# Altium footprint library mw.PcbLib: 123 footprints (part 4 of 8)
Each footprint in its own frame and in the unit in brackets; x right, y up, seen from the top. Pads: shape width x height; smd on the part's side, far side on the other; paste and mask are expansions set on the pad; w line width, h text height; cw(c..) or ccw(c..) is an arc to the next point about the centre after c.
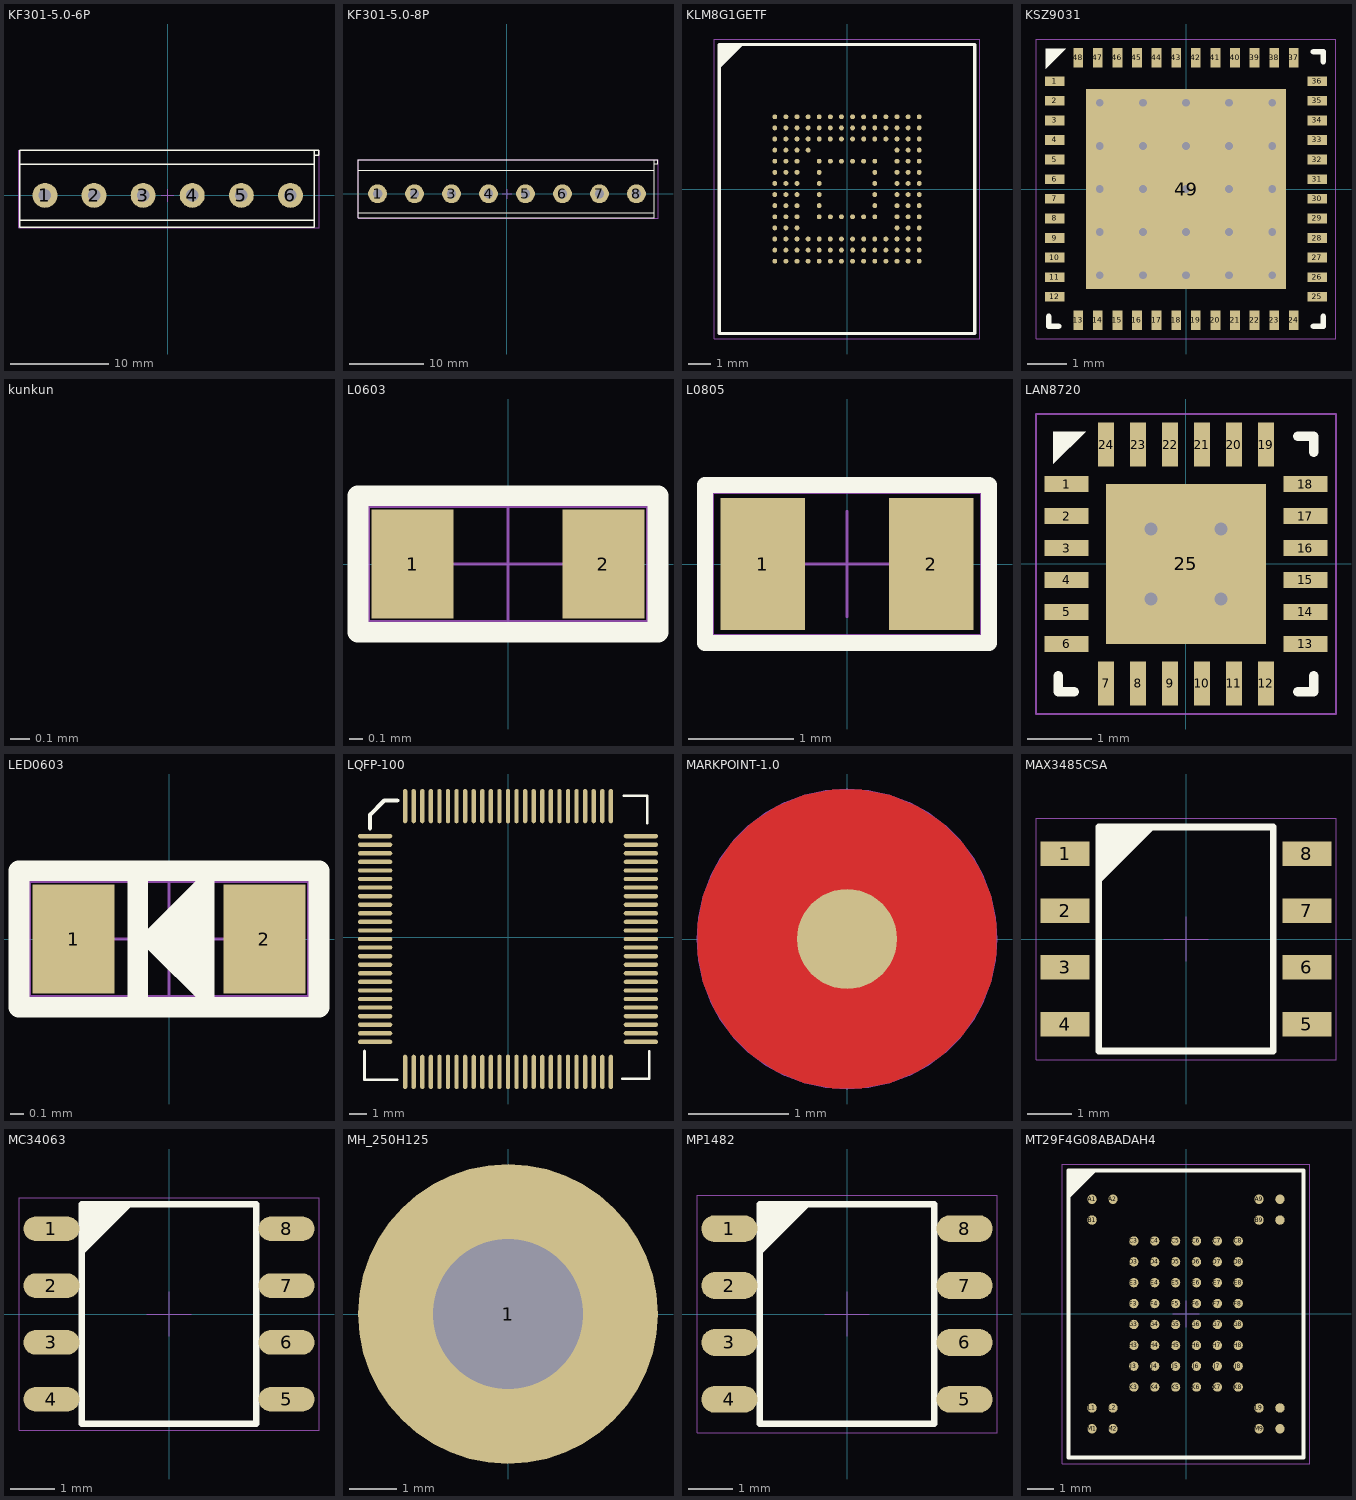
[diagram p3: the footprints below, top view; thin cyan lines are the x and y axes]

## KF301-5.0-6P [mm]
pads (6):
  round 2.54 hole 1.27: 1(-12.5,0) 2(-7.5,0) 3(-2.5,0) 4(2.5,0) 5(7.5,0) 6(12.5,0)
Top Overlay:
  lines w0.152: -15.08,-2.54 14.906,-2.54 ; -15.08,3.175 14.906,3.189 ; 14.906,4.064 15.367,4.064 15.367,4.572 ; 15.367,4.572 14.906,4.572 14.906,-3.225 -15.08,-3.225 -15.08,4.572 15.367,4.572
Mechanical 15:
  lines w0.025: -0.635,0 0.635,0 ; 0,-0.635 0,0.635 ; -15.144,-3.315 -15.144,4.61 15.414,4.61 15.414,-3.315 -15.144,-3.315
3D body "KF301-5.0-6.STEP": height 10, standoff -2, extent -15.08,-3.225 15.42,4.475

## KF301-5.0-8P [mm]
pads (8):
  round 2.54 hole 1.27: 1(-17.5,0) 2(-12.5,0) 3(-7.5,0) 4(-2.5,0) 5(2.5,0) 6(7.5,0) 7(12.5,0) 8(17.5,0)
Top Overlay:
  lines w0.152: -20.08,-2.54 19.906,-2.54 ; -20.08,3.175 19.906,3.193 ; 19.906,4.064 20.367,4.064 20.367,4.572 19.906,4.572 ; 19.906,4.572 19.906,-3.225 -20.08,-3.225 -20.08,4.572 19.906,4.572
Mechanical 15:
  lines w0.025: -0.617,-0.002 0.653,-0.002 ; 0.018,-0.637 0.018,0.633 ; -20.144,-3.315 20.414,-3.315 20.414,4.61 -20.144,4.61 -20.144,-3.315
3D body "KF301-5.0-8.STEP": height 10, standoff -2, extent -20.08,-3.225 20.42,4.475

## KLM8G1GETF [mm]
height 0.8
pads (153):
  round 0.22 smd: A1(-3.25,3.25) A2(-2.75,3.25) A3(-2.25,3.25) A4(-1.75,3.25) A5(-1.25,3.25) A6(-0.75,3.25) A7(-0.25,3.25) A8(0.25,3.25) A9(0.75,3.25) A10(1.25,3.25) A11(1.75,3.25) A12(2.25,3.25) A13(2.75,3.25) A14(3.25,3.25) B1(-3.25,2.75) B2(-2.75,2.75) B3(-2.25,2.75) B4(-1.75,2.75) B5(-1.25,2.75) B6(-0.75,2.75) B7(-0.25,2.75) B8(0.25,2.75) B9(0.75,2.75) B10(1.25,2.75) B11(1.75,2.75) B12(2.25,2.75) B13(2.75,2.75) B14(3.25,2.75) C1(-3.25,2.25) C2(-2.75,2.25) C3(-2.25,2.25) C4(-1.75,2.25) C5(-1.25,2.25) C6(-0.75,2.25) C7(-0.25,2.25) C8(0.25,2.25) C9(0.75,2.25) C10(1.25,2.25) C11(1.75,2.25) C12(2.25,2.25) C13(2.75,2.25) C14(3.25,2.25) D1(-3.25,1.75) D2(-2.75,1.75) D3(-2.25,1.75) D4(-1.75,1.75) D12(2.25,1.75) D13(2.75,1.75) D14(3.25,1.75) E1(-3.25,1.25) E2(-2.75,1.25) E3(-2.25,1.25) E5(-1.25,1.25) E6(-0.75,1.25) E7(-0.25,1.25) E8(0.25,1.25) E9(0.75,1.25) E10(1.25,1.25) E12(2.25,1.25) E13(2.75,1.25) E14(3.25,1.25) F1(-3.25,0.75) F2(-2.75,0.75) F3(-2.25,0.75) F5(-1.25,0.75) F10(1.25,0.75) F12(2.25,0.75) F13(2.75,0.75) F14(3.25,0.75) G1(-3.25,0.25) G2(-2.75,0.25) G3(-2.25,0.25) G5(-1.25,0.25) G10(1.25,0.25) G12(2.25,0.25) G13(2.75,0.25) G14(3.25,0.25) H1(-3.25,-0.25) H2(-2.75,-0.25) H3(-2.25,-0.25) H5(-1.25,-0.25) H10(1.25,-0.25) H12(2.25,-0.25) H13(2.75,-0.25) H14(3.25,-0.25) J1(-3.25,-0.75) J2(-2.75,-0.75) J3(-2.25,-0.75) J5(-1.25,-0.75) J10(1.25,-0.75) J12(2.25,-0.75) J13(2.75,-0.75) J14(3.25,-0.75) K1(-3.25,-1.25) K2(-2.75,-1.25) K3(-2.25,-1.25) K5(-1.25,-1.25) K6(-0.75,-1.25) K7(-0.25,-1.25) K8(0.25,-1.25) K9(0.75,-1.25) K10(1.25,-1.25) K12(2.25,-1.25) K13(2.75,-1.25) K14(3.25,-1.25) L1(-3.25,-1.75) L2(-2.75,-1.75) L3(-2.25,-1.75) L12(2.25,-1.75) L13(2.75,-1.75) L14(3.25,-1.75) M1(-3.25,-2.25) M2(-2.75,-2.25) M3(-2.25,-2.25) M4(-1.75,-2.25) M5(-1.25,-2.25) M6(-0.75,-2.25) M7(-0.25,-2.25) M8(0.25,-2.25) M9(0.75,-2.25) M10(1.25,-2.25) M11(1.75,-2.25) M12(2.25,-2.25) M13(2.75,-2.25) M14(3.25,-2.25) N1(-3.25,-2.75) N2(-2.75,-2.75) N3(-2.25,-2.75) N4(-1.75,-2.75) N5(-1.25,-2.75) N6(-0.75,-2.75) N7(-0.25,-2.75) N8(0.25,-2.75) N9(0.75,-2.75) N10(1.25,-2.75) N11(1.75,-2.75) N12(2.25,-2.75) N13(2.75,-2.75) N14(3.25,-2.75) P1(-3.25,-3.25) P2(-2.75,-3.25) P3(-2.25,-3.25) P4(-1.75,-3.25) P5(-1.25,-3.25) P6(-0.75,-3.25) P7(-0.25,-3.25) P8(0.25,-3.25) P9(0.75,-3.25) P10(1.25,-3.25) P11(1.75,-3.25) P12(2.25,-3.25) P13(2.75,-3.25) P14(3.25,-3.25)
Top Overlay:
  region: -4.75,6.5 -5.75,5.5 -5.75,6.5
  lines w0.152: -5.75,5.5 -4.75,6.5 ; -5.75,-6.5 5.75,-6.5 5.75,6.5 -5.75,6.5 -5.75,-6.5
Mechanical 15:
  lines w0.025: -5.975,-6.75 5.975,-6.75 5.975,6.75 -5.975,6.75 -5.975,-6.75

## KSZ9031 [mm] "QFN, 48-Leads, Body 7.00x7.00mm, Pitch 0.50mm, Thermal Pad 5.10x5.10mm, IPC High Density"
height 0.85
pads (49):
  rect 0.5x0.25 smd: 1(-3.35,2.75) 2(-3.35,2.25) 3(-3.35,1.75) 4(-3.35,1.25) 5(-3.35,0.75) 6(-3.35,0.25) 7(-3.35,-0.25) 8(-3.35,-0.75) 9(-3.35,-1.25) 10(-3.35,-1.75) 11(-3.35,-2.25) 12(-3.35,-2.75) 25(3.35,-2.75) 26(3.35,-2.25) 27(3.35,-1.75) 28(3.35,-1.25) 29(3.35,-0.75) 30(3.35,-0.25) 31(3.35,0.25) 32(3.35,0.75) 33(3.35,1.25) 34(3.35,1.75) 35(3.35,2.25) 36(3.35,2.75)
  rect 0.25x0.5 smd: 13(-2.75,-3.35) 14(-2.25,-3.35) 15(-1.75,-3.35) 16(-1.25,-3.35) 17(-0.75,-3.35) 18(-0.25,-3.35) 19(0.25,-3.35) 20(0.75,-3.35) 21(1.25,-3.35) 22(1.75,-3.35) 23(2.25,-3.35) 24(2.75,-3.35) 37(2.75,3.35) 38(2.25,3.35) 39(1.75,3.35) 40(1.25,3.35) 41(0.75,3.35) 42(0.25,3.35) 43(-0.25,3.35) 44(-0.75,3.35) 45(-1.25,3.35) 46(-1.75,3.35) 47(-2.25,3.35) 48(-2.75,3.35)
  rect 5.1x5.1 smd: 49(0,0)
via 2.2,-2.2 diameter 0.45 hole 0.2
via 1.1,-2.2 diameter 0.45 hole 0.2
via 0,-2.2 diameter 0.45 hole 0.2
via -1.1,-2.2 diameter 0.45 hole 0.2
via -2.2,-2.2 diameter 0.45 hole 0.2
via 2.2,-1.1 diameter 0.45 hole 0.2
via 1.1,-1.1 diameter 0.45 hole 0.2
via 0,-1.1 diameter 0.45 hole 0.2
via -1.1,-1.1 diameter 0.45 hole 0.2
via -2.2,-1.1 diameter 0.45 hole 0.2
via 2.2,0 diameter 0.45 hole 0.2
via 1.1,0 diameter 0.45 hole 0.2
via 0,0 diameter 0.45 hole 0.2
via -1.1,0 diameter 0.45 hole 0.2
via -2.2,0 diameter 0.45 hole 0.2
via 2.2,1.1 diameter 0.45 hole 0.2
via 1.1,1.1 diameter 0.45 hole 0.2
via 0,1.1 diameter 0.45 hole 0.2
via -1.1,1.1 diameter 0.45 hole 0.2
via -2.2,1.1 diameter 0.45 hole 0.2
via 2.2,2.2 diameter 0.45 hole 0.2
via 1.1,2.2 diameter 0.45 hole 0.2
via 0,2.2 diameter 0.45 hole 0.2
via -1.1,2.2 diameter 0.45 hole 0.2
via -2.2,2.2 diameter 0.45 hole 0.2
Top Overlay:
  region: -3.062,3.577 -3.577,3.577 -3.577,3.063
  lines w0.152: -3.5,-3.251 -3.5,-3.5 -3.251,-3.5 ; 3.251,-3.5 3.5,-3.5 3.5,-3.251 ; 3.251,3.5 3.5,3.5 3.5,3.251
Mechanical 15:
  lines w0.025: -0.5,0 0.5,0 ; 0,-0.5 0,0.5 ; -3.825,-3.825 3.825,-3.825 3.825,3.825 -3.825,3.825 -3.825,-3.825
3D body "ksz9031.STEP": height 0.88, standoff 0, extent -3.567,-3.57 3.563,3.56

## kunkun [mm]
Top Overlay:
  text "Designed by RUAN DING" at -6.858,0.286 h1.52

## L0603 [mm]
pads (2):
  rect 0.6x0.8 smd: 1(-0.7,0) 2(0.7,0)
Top Overlay:
  lines w0.152: -1.1,-0.5 1.1,-0.5 1.1,0.5 -1.1,0.5 -1.1,-0.5
Mechanical 15:
  lines w0.025: -0.45,0 0.45,0 ; 0,-0.45 0,0.45 ; -1.024,-0.424 1.024,-0.424 1.024,0.424 -1.024,0.424 -1.024,-0.424
3D body "0603-thick5.STEP": height 0.5, standoff 0, extent -0.81,-0.404 0.79,0.405

## L0805 [mm] "C0805"
pads (2):
  rect 0.8x1.25 smd: 1(-0.8,0) 2(0.8,0)
Top Overlay:
  lines w0.152: -1.35,-0.75 -1.35,0.75 1.35,0.75 1.35,-0.75 -1.35,-0.75
Mechanical 15:
  lines w0.025: -0.5,0 0.5,0 ; 0,-0.5 0,0.5 ; -1.275,-0.676 -1.275,0.676 1.275,0.676 1.275,-0.676 -1.275,-0.676
3D body "0805-thickM.STEP": height 1.19, standoff 0, extent -0.989,-0.66 1.011,0.665

## LAN8720 [mm] "QFN, 24-Leads, Body 4.00x4.00mm, Pitch 0.50mm, Thermal Pad 2.50x2.50mm, IPC High Density"
height 0.85
pads (25):
  rect 0.69x0.25 smd: 1(-1.87,1.25) 2(-1.87,0.75) 3(-1.87,0.25) 4(-1.87,-0.25) 5(-1.87,-0.75) 6(-1.87,-1.25) 13(1.87,-1.25) 14(1.87,-0.75) 15(1.87,-0.25) 16(1.87,0.25) 17(1.87,0.75) 18(1.87,1.25)
  rect 0.25x0.69 smd: 7(-1.25,-1.87) 8(-0.75,-1.87) 9(-0.25,-1.87) 10(0.25,-1.87) 11(0.75,-1.87) 12(1.25,-1.87) 19(1.25,1.87) 20(0.75,1.87) 21(0.25,1.87) 22(-0.25,1.87) 23(-0.75,1.87) 24(-1.25,1.87)
  rect 2.5x2.5 smd: 25(0,0)
via 0.55,-0.55 diameter 0.45 hole 0.2
via -0.55,-0.55 diameter 0.45 hole 0.2
via 0.55,0.55 diameter 0.45 hole 0.2
via -0.55,0.55 diameter 0.45 hole 0.2
Top Overlay:
  region: -1.57,2.075 -2.077,1.568 -2.077,2.075
  lines w0.152: -2,-1.751 -2,-2 -1.751,-2 ; 1.751,-2 2,-2 2,-1.751 ; 1.751,2 2,2 2,1.751
Mechanical 15:
  lines w0.025: -0.5,0 0.5,0 ; 0,-0.5 0,0.5 ; -2.35,-2.35 2.35,-2.35 2.35,2.35 -2.35,2.35 -2.35,-2.35

## LED0603 [mm] "Chip LED, 2-Leads, Body 1.60x0.80mm, IPC High Density"
height 0.45
pads (2):
  rect 0.6x0.8 smd: 1(-0.7,0) 2(0.7,0)
Top Overlay:
  region: 0.33,0.559 -0.229,0 0.33,-0.559
  lines w0.152: -0.229,-0.5 -0.229,0.5 ; -1.1,-0.5 -1.1,0.5 1.1,0.5 1.1,-0.5 -1.1,-0.5
Mechanical 15:
  lines w0.025: -0.45,0 0.45,0 ; 0,-0.45 0,0.45 ; -1.024,-0.424 1.024,-0.424 1.024,0.424 -1.024,0.424 -1.024,-0.424
3D body "led0603.STEP": height 0.65, standoff 0.01, extent -0.85,-0.394 0.85,0.406

## LQFP-100 [mm] "LQFP-100"
pads (100):
  oval 2x0.25 smd: 1(-7.75,5.899) 2(-7.75,5.399) 3(-7.75,4.899) 4(-7.75,4.399) 5(-7.75,3.899) 6(-7.75,3.399) 7(-7.75,2.899) 8(-7.75,2.399) 9(-7.75,1.899) 10(-7.75,1.399) 11(-7.75,0.899) 12(-7.75,0.399) 13(-7.75,-0.101) 14(-7.75,-0.601) 15(-7.75,-1.101) 16(-7.75,-1.601) 17(-7.75,-2.101) 18(-7.75,-2.601) 19(-7.75,-3.101) 20(-7.75,-3.601) 21(-7.75,-4.101) 22(-7.75,-4.601) 23(-7.75,-5.101) 24(-7.75,-5.601) 25(-7.75,-6.101) 51(7.75,-6.101) 52(7.75,-5.601) 53(7.75,-5.101) 54(7.75,-4.601) 55(7.75,-4.101) 56(7.75,-3.601) 57(7.75,-3.101) 58(7.75,-2.601) 59(7.75,-2.101) 60(7.75,-1.601) 61(7.75,-1.101) 62(7.75,-0.601) 63(7.75,-0.101) 64(7.75,0.399) 65(7.75,0.899) 66(7.75,1.399) 67(7.75,1.899) 68(7.75,2.399) 69(7.75,2.899) 70(7.75,3.399) 71(7.75,3.899) 72(7.75,4.399) 73(7.75,4.899) 74(7.75,5.399) 75(7.75,5.899)
  oval 0.25x2 smd: 26(-6,-7.851) 27(-5.5,-7.851) 28(-5,-7.851) 29(-4.5,-7.851) 30(-4,-7.851) 31(-3.5,-7.851) 32(-3,-7.851) 33(-2.5,-7.851) 34(-2,-7.851) 35(-1.5,-7.851) 36(-1,-7.851) 37(-0.5,-7.851) 38(0,-7.851) 39(0.5,-7.851) 40(1,-7.851) 41(1.5,-7.851) 42(2,-7.851) 43(2.5,-7.851) 44(3,-7.851) 45(3.5,-7.851) 46(4,-7.851) 47(4.5,-7.851) 48(5,-7.851) 49(5.5,-7.851) 50(6,-7.851) 76(6,7.649) 77(5.5,7.649) 78(5,7.649) 79(4.5,7.649) 80(4,7.649) 81(3.5,7.649) 82(3,7.649) 83(2.5,7.649) 84(2,7.649) 85(1.5,7.649) 86(1,7.649) 87(0.5,7.649) 88(0,7.649) 89(-0.5,7.649) 90(-1,7.649) 91(-1.5,7.649) 92(-2,7.649) 93(-2.5,7.649) 94(-3,7.649) 95(-3.5,7.649) 96(-4,7.649) 97(-4.5,7.649) 98(-5,7.649) 99(-5.5,7.649) 100(-6,7.649)
Top Overlay:
  lines w0.152: -8.369,-6.637 -8.369,-8.315 -6.469,-8.315 ; 6.673,-8.247 8.233,-8.247 8.233,-6.664 ; 6.762,8.245 8.121,8.245 8.121,6.645
  lines w0.254: -8.052,6.351 -8.052,7.138 -7.214,7.976 -6.452,7.976

## MARKPOINT-1.0 [mm]
pads (2):
  round 1 smd: ""(0,0)
  round 3 on Top Solder: ""(0,0)
Top Layer:
  pour cut-out: 0,-1.494 -0.147,-1.494 -0.436,-1.437 -0.708,-1.324 -0.952,-1.161 -1.161,-0.952 -1.324,-0.708 -1.437,-0.436 -1.494,-0.147 -1.494,0 -1.494,0.147 -1.437,0.436 -1.324,0.708 -1.161,0.952 -0.952,1.161 -0.708,1.324 -0.436,1.437 -0.147,1.494 0,1.494 0.147,1.494 0.436,1.437 0.708,1.324 0.952,1.161 1.161,0.952 1.324,0.708 1.437,0.436 1.494,0.147 1.494,0 1.494,-0.147 1.437,-0.436 1.324,-0.708 1.161,-0.952 0.952,-1.161 0.708,-1.324 0.436,-1.437 0.147,-1.494
Mechanical 15:
  circle w0.025: c0,0 r1.494

## MAX3485CSA [mm]
height 1.7
pads (8):
  rect 1.1x0.55 smd: 1(-2.7,1.905) 2(-2.7,0.635) 3(-2.7,-0.635) 4(-2.7,-1.905) 5(2.7,-1.905) 6(2.7,-0.635) 7(2.7,0.635) 8(2.7,1.905)
Top Overlay:
  region: -0.635,2.54 -1.905,1.27 -1.95,1.27 -1.95,2.5
  lines w0.152: -1.95,-2.5 1.95,-2.5 1.95,2.5 -1.95,2.5 -1.95,-2.5
Mechanical 15:
  lines w0.025: -0.5,0 0.5,0 ; 0,-0.5 0,0.5 ; -3.35,-2.7 3.35,-2.7 3.35,2.7 -3.35,2.7 -3.35,-2.7
3D body "max3485.STEP": height 1.78, standoff 0, extent -3.128,-2.5 3.128,2.5

## MC34063 [mm]
height 1.6
pads (8):
  oval 1.25x0.55 smd: 1(-2.625,1.905) 2(-2.625,0.635) 3(-2.625,-0.635) 4(-2.625,-1.905) 5(2.625,-1.905) 6(2.625,-0.635) 7(2.625,0.635) 8(2.625,1.905)
Top Overlay:
  region: -1.936,2.43 -1.916,2.45 -0.8,2.45 -1.95,1.3
  lines w0.152: -1.95,-2.45 -1.95,2.45 1.95,2.45 1.95,-2.45 -1.95,-2.45
Mechanical 15:
  lines w0.025: -0.5,0 0.5,0 ; 0,-0.5 0,0.5 ; -3.35,-2.6 -3.35,2.6 3.35,2.6 3.35,-2.6 -3.35,-2.6
3D body "mp1482.STEP": height 1.74, standoff 0, extent -3.023,-2.428 3.132,2.472

## MH_250H125 [mm] "MH_250H125"
pads (1):
  round 6.35 hole 3.175: 1(0,0)
Mechanical 10:
  text "1" at -0.406,0 h0.51

## MP1482 [mm]
height 1.75
pads (8):
  oval 1.25x0.6 smd: 1(-2.625,1.905) 2(-2.625,0.635) 3(-2.625,-0.635) 4(-2.625,-1.905) 5(2.625,-1.905) 6(2.625,-0.635) 7(2.625,0.635) 8(2.625,1.905)
Top Overlay:
  region: -1.936,2.43 -1.916,2.45 -0.8,2.45 -1.95,1.3
  lines w0.152: -1.95,-2.45 -1.95,2.45 1.95,2.45 1.95,-2.45 -1.95,-2.45
Mechanical 15:
  lines w0.025: -0.5,0 0.5,0 ; 0,-0.5 0,0.5 ; -3.35,-2.65 -3.35,2.65 3.35,2.65 3.35,-2.65 -3.35,-2.65
3D body "mp1482.STEP": height 1.74, standoff 0, extent -3.023,-2.428 3.132,2.472

## MT29F4G08ABADAH4 [mm] "BGA, 63-Leads, Body 9.00x11.00mmx1.00mm, Pitch 0.80mm"
height 1
pads (63):
  round 0.36 smd: A1(-3.6,4.4) A2(-2.8,4.4) A9(2.8,4.4) A10(3.6,4.4) B1(-3.6,3.6) B9(2.8,3.6) B10(3.6,3.6) C3(-2,2.8) C4(-1.2,2.8) C5(-0.4,2.8) C6(0.4,2.8) C7(1.2,2.8) C8(2,2.8) D3(-2,2) D4(-1.2,2) D5(-0.4,2) D6(0.4,2) D7(1.2,2) D8(2,2) E3(-2,1.2) E4(-1.2,1.2) E5(-0.4,1.2) E6(0.4,1.2) E7(1.2,1.2) E8(2,1.2) F3(-2,0.4) F4(-1.2,0.4) F5(-0.4,0.4) F6(0.4,0.4) F7(1.2,0.4) F8(2,0.4) G3(-2,-0.4) G4(-1.2,-0.4) G5(-0.4,-0.4) G6(0.4,-0.4) G7(1.2,-0.4) G8(2,-0.4) H3(-2,-1.2) H4(-1.2,-1.2) H5(-0.4,-1.2) H6(0.4,-1.2) H7(1.2,-1.2) H8(2,-1.2) J3(-2,-2) J4(-1.2,-2) J5(-0.4,-2) J6(0.4,-2) J7(1.2,-2) J8(2,-2) K3(-2,-2.8) K4(-1.2,-2.8) K5(-0.4,-2.8) K6(0.4,-2.8) K7(1.2,-2.8) K8(2,-2.8) L1(-3.6,-3.6) L2(-2.8,-3.6) L9(2.8,-3.6) L10(3.6,-3.6) M1(-3.6,-4.4) M2(-2.8,-4.4) M9(2.8,-4.4) M10(3.6,-4.4)
Top Overlay:
  region: -3.5,5.5 -4.5,4.5 -4.5,5.5
  lines w0.152: -4.5,4.5 -3.5,5.5 ; -4.5,-5.5 -4.5,5.5 4.5,5.5 4.5,-5.5 -4.5,-5.5
Mechanical 15:
  lines w0.025: -0.5,0 0.5,0 ; 0,-0.5 0,0.5 ; -4.75,-5.75 -4.75,5.75 4.75,5.75 4.75,-5.75 -4.75,-5.75